# EAGLE library part 0532610871 (library molex)
CONN HEADER 8POS 1.25MM R/A SMD This is a library for 8 pin Molex connector 1.25mm pitch). MPN 0532610871 Can be used to connect Plantower PMS3003/5003/7003 PM2.5 sensor Designed by Akram Ali https://github.com/akstudios
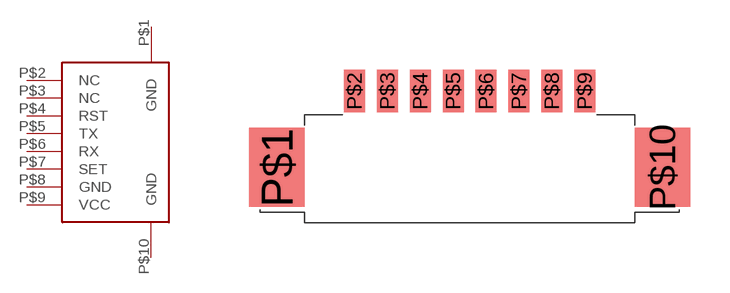
[diagram p0: symbol with the pads of 0532610871; footprint 0532610871]

Designator prefix -

## 0532610871  [0532610871]
P$1  GND
P$2  NC
P$3  NC
P$4  RST
P$5  TX
P$6  RX
P$7  SET
P$8  GND
P$9  VCC
P$10  GND

## Footprint 0532610871 (pad centres in mm)
smd 2.1 x 3: P$1 1.05,1.5; P$10 15.7,1.5
smd 0.8 x 1.6: P$2 4,4.4; P$3 5.25,4.4; P$4 6.5,4.4; P$5 7.75,4.4; P$6 9,4.4; P$7 10.25,4.4; P$8 11.5,4.4; P$9 12.75,4.4